# Altium footprint library DDR1-SODIMM-V.PcbLib: 1 footprints
Each footprint in its own frame and in the unit in brackets; x right, y up, seen from the top. Pads: shape width x height; smd on the part's side, far side on the other; paste and mask are expansions set on the pad; w line width, h text height; cw(c..) or ccw(c..) is an arc to the next point about the centre after c.
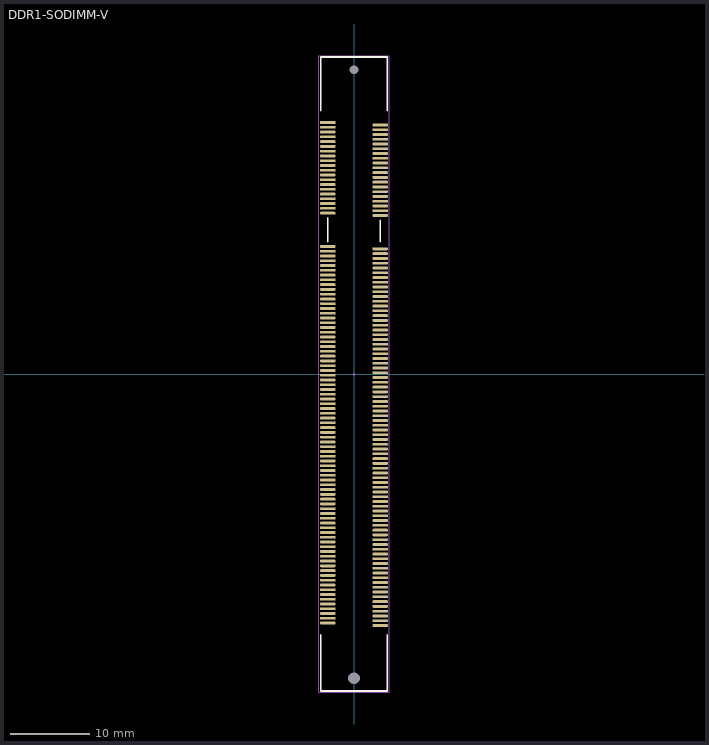
[diagram p0: the footprint, top view; thin cyan lines are the x and y axes]

## DDR1-SODIMM-V [mm]
pads (202):
  round 0 hole 1.5 unplated: 0(0,-38.3)
  round 0 hole 1.1 unplated: 0(0,38.3)
  rect 2x0.35 smd mask+0.05: 1(-3.3,31.65)
  oval 2x0.35 smd mask+0.05: 2(3.3,31.35) 3(-3.3,31.05) 4(3.3,30.75) 5(-3.3,30.45) 6(3.3,30.15) 7(-3.3,29.85) 8(3.3,29.55) 9(-3.3,29.25) 10(3.3,28.95) 11(-3.3,28.65) 12(3.3,28.35) 13(-3.3,28.05) 14(3.3,27.75) 15(-3.3,27.45) 16(3.3,27.15) 17(-3.3,26.85) 18(3.3,26.55) 19(-3.3,26.25) 20(3.3,25.95) 21(-3.3,25.65) 22(3.3,25.35) 23(-3.3,25.05) 24(3.3,24.75) 25(-3.3,24.45) 26(3.3,24.15) 27(-3.3,23.85) 28(3.3,23.55) 29(-3.3,23.25) 30(3.3,22.95) 31(-3.3,22.65) 32(3.3,22.35) 33(-3.3,22.05) 34(3.3,21.75) 35(-3.3,21.45) 36(3.3,21.15) 37(-3.3,20.85) 38(3.3,20.55) 39(-3.3,20.25) 40(3.3,19.95) 41(-3.3,16.05) 42(3.3,15.75) 43(-3.3,15.45) 44(3.3,15.15) 45(-3.3,14.85) 46(3.3,14.55) 47(-3.3,14.25) 48(3.3,13.95) 49(-3.3,13.65) 50(3.3,13.35) 51(-3.3,13.05) 52(3.3,12.75) 53(-3.3,12.45) 54(3.3,12.15) 55(-3.3,11.85) 56(3.3,11.55) 57(-3.3,11.25) 58(3.3,10.95) 59(-3.3,10.65) 60(3.3,10.35) 61(-3.3,10.05) 62(3.3,9.75) 63(-3.3,9.45) 64(3.3,9.15) 65(-3.3,8.85) 66(3.3,8.55) 67(-3.3,8.25) 68(3.3,7.95) 69(-3.3,7.65) 70(3.3,7.35) 71(-3.3,7.05) 72(3.3,6.75) 73(-3.3,6.45) 74(3.3,6.15) 75(-3.3,5.85) 76(3.3,5.55) 77(-3.3,5.25) 78(3.3,4.95) 79(-3.3,4.65) 80(3.3,4.35) 81(-3.3,4.05) 82(3.3,3.75) 83(-3.3,3.45) 84(3.3,3.15) 85(-3.3,2.85) 86(3.3,2.55) 87(-3.3,2.25) 88(3.3,1.95) 89(-3.3,1.65) 90(3.3,1.35) 91(-3.3,1.05) 92(3.3,0.75) 93(-3.3,0.45) 94(3.3,0.15) 95(-3.3,-0.15) 96(3.3,-0.45) 97(-3.3,-0.75) 98(3.3,-1.05) 99(-3.3,-1.35) 100(3.3,-1.65) 101(-3.3,-1.95) 102(3.3,-2.25) 103(-3.3,-2.55) 104(3.3,-2.85) 105(-3.3,-3.15) 106(3.3,-3.45) 107(-3.3,-3.75) 108(3.3,-4.05) 109(-3.3,-4.35) 110(3.3,-4.65) 111(-3.3,-4.95) 112(3.3,-5.25) 113(-3.3,-5.55) 114(3.3,-5.85) 115(-3.3,-6.15) 116(3.3,-6.45) 117(-3.3,-6.75) 118(3.3,-7.05) 119(-3.3,-7.35) 120(3.3,-7.65) 121(-3.3,-7.95) 122(3.3,-8.25) 123(-3.3,-8.55) 124(3.3,-8.85) 125(-3.3,-9.15) 126(3.3,-9.45) 127(-3.3,-9.75) 128(3.3,-10.05) 129(-3.3,-10.35) 130(3.3,-10.65) 131(-3.3,-10.95) 132(3.3,-11.25) 133(-3.3,-11.55) 134(3.3,-11.85) 135(-3.3,-12.15) 136(3.3,-12.45) 137(-3.3,-12.75) 138(3.3,-13.05) 139(-3.3,-13.35) 140(3.3,-13.65) 141(-3.3,-13.95) 142(3.3,-14.25) 143(-3.3,-14.55) 144(3.3,-14.85) 145(-3.3,-15.15) 146(3.3,-15.45) 147(-3.3,-15.75) 148(3.3,-16.05) 149(-3.3,-16.35) 150(3.3,-16.65) 151(-3.3,-16.95) 152(3.3,-17.25) 153(-3.3,-17.55) 154(3.3,-17.85) 155(-3.3,-18.15) 156(3.3,-18.45) 157(-3.3,-18.75) 158(3.3,-19.05) 159(-3.3,-19.35) 160(3.3,-19.65) 161(-3.3,-19.95) 162(3.3,-20.25) 163(-3.3,-20.55) 164(3.3,-20.85) 165(-3.3,-21.15) 166(3.3,-21.45) 167(-3.3,-21.75) 168(3.3,-22.05) 169(-3.3,-22.35) 170(3.3,-22.65) 171(-3.3,-22.95) 172(3.3,-23.25) 173(-3.3,-23.55) 174(3.3,-23.85) 175(-3.3,-24.15) 176(3.3,-24.45) 177(-3.3,-24.75) 178(3.3,-25.05) 179(-3.3,-25.35) 180(3.3,-25.65) 181(-3.3,-25.95) 182(3.3,-26.25) 183(-3.3,-26.55) 184(3.3,-26.85) 185(-3.3,-27.15) 186(3.3,-27.45) 187(-3.3,-27.75) 188(3.3,-28.05) 189(-3.3,-28.35) 190(3.3,-28.65) 191(-3.3,-28.95) 192(3.3,-29.25) 193(-3.3,-29.55) 194(3.3,-29.85) 195(-3.3,-30.15) 196(3.3,-30.45) 197(-3.3,-30.75) 198(3.3,-31.05) 199(-3.3,-31.35) 200(3.3,-31.65)
Top Overlay:
  lines w0.2: -4.2,-32.85 -4.2,-39.9 4.2,-39.9 4.2,-32.85 ; -4.2,33.15 -4.2,39.9 4.2,39.9 4.2,33.15 ; -3.3,16.65 -3.3,19.65 ; 3.3,16.65 3.3,19.35
Mechanical 15:
  lines w0.05: -0.25,0 0.25,0 ; 0,-0.25 0,0.25 ; -4.45,-40.05 -4.45,40.05 4.45,40.05 4.45,-40.05 -4.45,-40.05
3D body "TE-CONN-2040910-1-d-3d.stp": height 15.06, standoff -0.94, extent -4.2,-39.9 4.2,39.9